# Altium footprint library Connector_PinHeader_1.00mm.PcbLib: 278 footprints (part 15 of 18)
Each footprint in its own frame and in the unit in brackets; x right, y up, seen from the top. Pads: shape width x height; smd on the part's side, far side on the other; paste and mask are expansions set on the pad; w line width, h text height; cw(c..) or ccw(c..) is an arc to the next point about the centre after c.
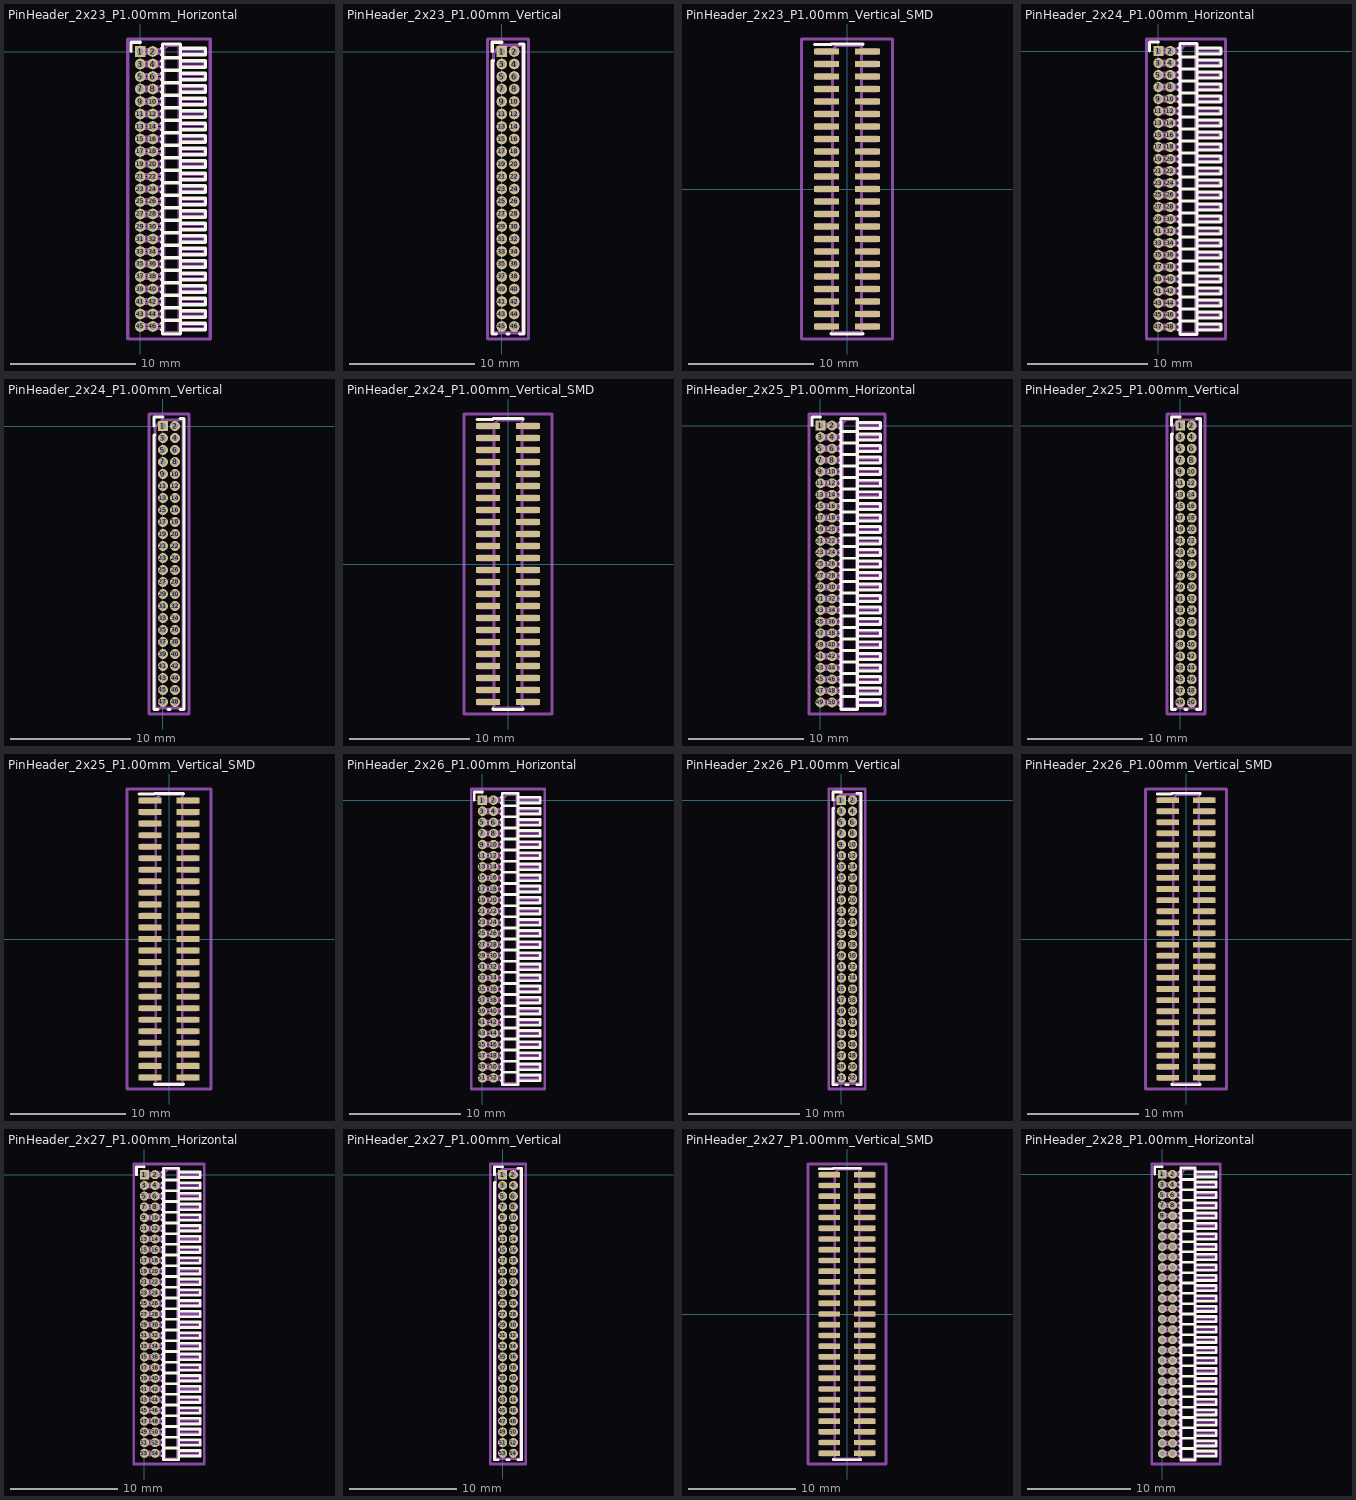
[diagram p14: the footprints below, top view; thin cyan lines are the x and y axes]

## PinHeader_2x23_P1.00mm_Horizontal [mm]
pads (46):
  rect 0.85x0.85 hole 0.5: 1(0,0)
  round 0.85 hole 0.5: 2(1,0) 3(0,-1) 4(1,-1) 5(0,-2) 6(1,-2) 7(0,-3) 8(1,-3) 9(0,-4) 10(1,-4) 11(0,-5) 12(1,-5) 13(0,-6) 14(1,-6) 15(0,-7) 16(1,-7) 17(0,-8) 18(1,-8) 19(0,-9) 20(1,-9) 21(0,-10) 22(1,-10) 23(0,-11) 24(1,-11) 25(0,-12) 26(1,-12) 27(0,-13) 28(1,-13) 29(0,-14) 30(1,-14) 31(0,-15) 32(1,-15) 33(0,-16) 34(1,-16) 35(0,-17) 36(1,-17) 37(0,-18) 38(1,-18) 39(0,-19) 40(1,-19) 41(0,-20) 42(1,-20) 43(0,-21) 44(1,-21) 45(0,-22) 46(1,-22)
F.SilkS:
  lines w0.254: -0.735,0 -0.735,0.735 0,0.735 ; 1.687,-22.26 1.79,-22.26 ; 1.687,-21.74 1.79,-21.74 ; 1.687,-21.26 1.79,-21.26 ; 1.687,-20.74 1.79,-20.74 ; 1.687,-20.26 1.79,-20.26 ; 1.687,-19.74 1.79,-19.74 ; 1.687,-19.26 1.79,-19.26 ; 1.687,-18.74 1.79,-18.74 ; 1.687,-18.26 1.79,-18.26 ; 1.687,-17.74 1.79,-17.74 ; 1.687,-17.26 1.79,-17.26 ; 1.687,-16.74 1.79,-16.74 ; 1.687,-16.26 1.79,-16.26 ; 1.687,-15.74 1.79,-15.74 ; 1.687,-15.26 1.79,-15.26 ; 1.687,-14.74 1.79,-14.74 ; 1.687,-14.26 1.79,-14.26 ; 1.687,-13.74 1.79,-13.74 ; 1.687,-13.26 1.79,-13.26 ; 1.687,-12.74 1.79,-12.74 ; 1.687,-12.26 1.79,-12.26 ; 1.687,-11.74 1.79,-11.74 ; 1.687,-11.26 1.79,-11.26 ; 1.687,-10.74 1.79,-10.74 ; 1.687,-10.26 1.79,-10.26 ; 1.687,-9.74 1.79,-9.74 ; 1.687,-9.26 1.79,-9.26 ; 1.687,-8.74 1.79,-8.74 ; 1.687,-8.26 1.79,-8.26 ; 1.687,-7.74 1.79,-7.74 ; 1.687,-7.26 1.79,-7.26 ; 1.687,-6.74 1.79,-6.74 ; 1.687,-6.26 1.79,-6.26 ; 1.687,-5.74 1.79,-5.74 ; 1.687,-5.26 1.79,-5.26 ; 1.687,-4.74 1.79,-4.74 ; 1.687,-4.26 1.79,-4.26 ; 1.687,-3.74 1.79,-3.74 ; 1.687,-3.26 1.79,-3.26 ; 1.687,-2.74 1.79,-2.74 ; 1.687,-2.26 1.79,-2.26 ; 1.687,-1.74 1.79,-1.74 ; 1.687,-1.26 1.79,-1.26 ; 1.687,-0.74 1.79,-0.74 ; 1.687,-0.26 1.79,-0.26 ; 1.687,0.26 1.79,0.26 ; 1.79,-21.5 3.21,-21.5 ; 1.79,-20.5 3.21,-20.5 ; 1.79,-19.5 3.21,-19.5 ; 1.79,-18.5 3.21,-18.5 ; 1.79,-17.5 3.21,-17.5 ; 1.79,-16.5 3.21,-16.5 ; 1.79,-15.5 3.21,-15.5 ; 1.79,-14.5 3.21,-14.5 ; 1.79,-13.5 3.21,-13.5 ; 1.79,-12.5 3.21,-12.5 ; 1.79,-11.5 3.21,-11.5 ; 1.79,-10.5 3.21,-10.5 ; 1.79,-9.5 3.21,-9.5 ; 1.79,-8.5 3.21,-8.5 ; 1.79,-7.5 3.21,-7.5 ; 1.79,-6.5 3.21,-6.5 ; 1.79,-5.5 3.21,-5.5 ; 1.79,-4.5 3.21,-4.5 ; 1.79,-3.5 3.21,-3.5 ; 1.79,-2.5 3.21,-2.5 ; 1.79,-1.5 3.21,-1.5 ; 1.79,-0.5 3.21,-0.5 ; 3.21,-22.26 5.21,-22.26 5.21,-21.74 3.21,-21.74 ; 3.21,-21.26 5.21,-21.26 5.21,-20.74 3.21,-20.74 ; 3.21,-20.26 5.21,-20.26 5.21,-19.74 3.21,-19.74 ; 3.21,-19.26 5.21,-19.26 5.21,-18.74 3.21,-18.74 ; 3.21,-18.26 5.21,-18.26 5.21,-17.74 3.21,-17.74 ; 3.21,-17.26 5.21,-17.26 5.21,-16.74 3.21,-16.74 ; 3.21,-16.26 5.21,-16.26 5.21,-15.74 3.21,-15.74 ; 3.21,-15.26 5.21,-15.26 5.21,-14.74 3.21,-14.74 ; 3.21,-14.26 5.21,-14.26 5.21,-13.74 3.21,-13.74 ; 3.21,-13.26 5.21,-13.26 5.21,-12.74 3.21,-12.74 ; 3.21,-12.26 5.21,-12.26 5.21,-11.74 3.21,-11.74 ; 3.21,-11.26 5.21,-11.26 5.21,-10.74 3.21,-10.74 ; 3.21,-10.26 5.21,-10.26 5.21,-9.74 3.21,-9.74 ; 3.21,-9.26 5.21,-9.26 5.21,-8.74 3.21,-8.74 ; 3.21,-8.26 5.21,-8.26 5.21,-7.74 3.21,-7.74 ; 3.21,-7.26 5.21,-7.26 5.21,-6.74 3.21,-6.74 ; 3.21,-6.26 5.21,-6.26 5.21,-5.74 3.21,-5.74 ; 3.21,-5.26 5.21,-5.26 5.21,-4.74 3.21,-4.74 ; 3.21,-4.26 5.21,-4.26 5.21,-3.74 3.21,-3.74 ; 3.21,-3.26 5.21,-3.26 5.21,-2.74 3.21,-2.74 ; 3.21,-2.26 5.21,-2.26 5.21,-1.74 3.21,-1.74 ; 3.21,-1.26 5.21,-1.26 5.21,-0.74 3.21,-0.74 ; 1.79,-22.61 3.21,-22.61 3.21,0.61 1.79,0.61 1.79,-22.61 ; 3.21,-0.26 5.21,-0.26 5.21,0.26 3.21,0.26 3.21,-0.26
Top Assembly:
  lines w0.254: 1.9,-22.15 -0.15,-22.15 -0.15,-21.85 1.9,-21.85 ; 1.9,-21.15 -0.15,-21.15 -0.15,-20.85 1.9,-20.85 ; 1.9,-20.15 -0.15,-20.15 -0.15,-19.85 1.9,-19.85 ; 1.9,-19.15 -0.15,-19.15 -0.15,-18.85 1.9,-18.85 ; 1.9,-18.15 -0.15,-18.15 -0.15,-17.85 1.9,-17.85 ; 1.9,-17.15 -0.15,-17.15 -0.15,-16.85 1.9,-16.85 ; 1.9,-16.15 -0.15,-16.15 -0.15,-15.85 1.9,-15.85 ; 1.9,-15.15 -0.15,-15.15 -0.15,-14.85 1.9,-14.85 ; 1.9,-14.15 -0.15,-14.15 -0.15,-13.85 1.9,-13.85 ; 1.9,-13.15 -0.15,-13.15 -0.15,-12.85 1.9,-12.85 ; 1.9,-12.15 -0.15,-12.15 -0.15,-11.85 1.9,-11.85 ; 1.9,-11.15 -0.15,-11.15 -0.15,-10.85 1.9,-10.85 ; 1.9,-10.15 -0.15,-10.15 -0.15,-9.85 1.9,-9.85 ; 1.9,-9.15 -0.15,-9.15 -0.15,-8.85 1.9,-8.85 ; 1.9,-8.15 -0.15,-8.15 -0.15,-7.85 1.9,-7.85 ; 1.9,-7.15 -0.15,-7.15 -0.15,-6.85 1.9,-6.85 ; 1.9,-6.15 -0.15,-6.15 -0.15,-5.85 1.9,-5.85 ; 1.9,-5.15 -0.15,-5.15 -0.15,-4.85 1.9,-4.85 ; 1.9,-4.15 -0.15,-4.15 -0.15,-3.85 1.9,-3.85 ; 1.9,-3.15 -0.15,-3.15 -0.15,-2.85 1.9,-2.85 ; 1.9,-2.15 -0.15,-2.15 -0.15,-1.85 1.9,-1.85 ; 1.9,-1.15 -0.15,-1.15 -0.15,-0.85 1.9,-0.85 ; 1.9,-0.15 -0.15,-0.15 -0.15,0.15 1.9,0.15 ; 3.1,-22.15 5.1,-22.15 5.1,-21.85 3.1,-21.85 ; 3.1,-21.15 5.1,-21.15 5.1,-20.85 3.1,-20.85 ; 3.1,-20.15 5.1,-20.15 5.1,-19.85 3.1,-19.85 ; 3.1,-19.15 5.1,-19.15 5.1,-18.85 3.1,-18.85 ; 3.1,-18.15 5.1,-18.15 5.1,-17.85 3.1,-17.85 ; 3.1,-17.15 5.1,-17.15 5.1,-16.85 3.1,-16.85 ; 3.1,-16.15 5.1,-16.15 5.1,-15.85 3.1,-15.85 ; 3.1,-15.15 5.1,-15.15 5.1,-14.85 3.1,-14.85 ; 3.1,-14.15 5.1,-14.15 5.1,-13.85 3.1,-13.85 ; 3.1,-13.15 5.1,-13.15 5.1,-12.85 3.1,-12.85 ; 3.1,-12.15 5.1,-12.15 5.1,-11.85 3.1,-11.85 ; 3.1,-11.15 5.1,-11.15 5.1,-10.85 3.1,-10.85 ; 3.1,-10.15 5.1,-10.15 5.1,-9.85 3.1,-9.85 ; 3.1,-9.15 5.1,-9.15 5.1,-8.85 3.1,-8.85 ; 3.1,-8.15 5.1,-8.15 5.1,-7.85 3.1,-7.85 ; 3.1,-7.15 5.1,-7.15 5.1,-6.85 3.1,-6.85 ; 3.1,-6.15 5.1,-6.15 5.1,-5.85 3.1,-5.85 ; 3.1,-5.15 5.1,-5.15 5.1,-4.85 3.1,-4.85 ; 3.1,-4.15 5.1,-4.15 5.1,-3.85 3.1,-3.85 ; 3.1,-3.15 5.1,-3.15 5.1,-2.85 3.1,-2.85 ; 3.1,-2.15 5.1,-2.15 5.1,-1.85 3.1,-1.85 ; 3.1,-1.15 5.1,-1.15 5.1,-0.85 3.1,-0.85 ; 3.1,-0.15 5.1,-0.15 5.1,0.15 3.1,0.15 ; 1.9,-22.5 3.1,-22.5 3.1,0.5 2.2,0.5 1.9,0.2 1.9,-22.5
  text "'.Designator'" at 3.105,-13.914 h0.72
Top Courtyard:
  lines w0.254: -1,-23 5.6,-23 5.6,1 -1,1 -1,-23
Top Designator:
  text ".Designator" at -5.318,-11.508 h1.52

## PinHeader_2x23_P1.00mm_Vertical [mm]
pads (46):
  rect 0.85x0.85 hole 0.5: 1(0,0)
  round 0.85 hole 0.5: 2(1,0) 3(0,-1) 4(1,-1) 5(0,-2) 6(1,-2) 7(0,-3) 8(1,-3) 9(0,-4) 10(1,-4) 11(0,-5) 12(1,-5) 13(0,-6) 14(1,-6) 15(0,-7) 16(1,-7) 17(0,-8) 18(1,-8) 19(0,-9) 20(1,-9) 21(0,-10) 22(1,-10) 23(0,-11) 24(1,-11) 25(0,-12) 26(1,-12) 27(0,-13) 28(1,-13) 29(0,-14) 30(1,-14) 31(0,-15) 32(1,-15) 33(0,-16) 34(1,-16) 35(0,-17) 36(1,-17) 37(0,-18) 38(1,-18) 39(0,-19) 40(1,-19) 41(0,-20) 42(1,-20) 43(0,-21) 44(1,-21) 45(0,-22) 46(1,-22)
F.SilkS:
  lines w0.254: -0.76,0 -0.76,0.735 0,0.735 ; -0.686,-0.735 -0.76,-0.735 -0.76,-22.61 -0.41,-22.61 ; 0.41,-22.61 0.59,-22.61 ; 1.41,-22.61 1.76,-22.61 1.76,0.61 1.41,0.61
Top Assembly:
  lines w0.254: -0.65,-22.5 1.65,-22.5 1.65,0.5 -0.075,0.5 -0.65,-0.075 -0.65,-22.5
  text "'.Designator'" at 1.34,-15.047 h1
Top Courtyard:
  lines w0.254: -1.15,-23 2.15,-23 2.15,1 -1.15,1 -1.15,-23
Top Designator:
  text ".Designator" at -7.118,-11.508 h1.52

## PinHeader_2x23_P1.00mm_Vertical_SMD [mm]
pads (46):
  rect 2x0.5 smd: 1(-1.65,11) 2(1.65,11) 3(-1.65,10) 4(1.65,10) 5(-1.65,9) 6(1.65,9) 7(-1.65,8) 8(1.65,8) 9(-1.65,7) 10(1.65,7) 11(-1.65,6) 12(1.65,6) 13(-1.65,5) 14(1.65,5) 15(-1.65,4) 16(1.65,4) 17(-1.65,3) 18(1.65,3) 19(-1.65,2) 20(1.65,2) 21(-1.65,1) 22(1.65,1) 23(-1.65,0) 24(1.65,0) 25(-1.65,-1) 26(1.65,-1) 27(-1.65,-2) 28(1.65,-2) 29(-1.65,-3) 30(1.65,-3) 31(-1.65,-4) 32(1.65,-4) 33(-1.65,-5) 34(1.65,-5) 35(-1.65,-6) 36(1.65,-6) 37(-1.65,-7) 38(1.65,-7) 39(-1.65,-8) 40(1.65,-8) 41(-1.65,-9) 42(1.65,-9) 43(-1.65,-10) 44(1.65,-10) 45(-1.65,-11) 46(1.65,-11)
F.SilkS:
  lines w0.254: -2.59,11.56 -1.26,11.56 -1.26,11.61 1.26,11.61 1.26,11.56 ; -1.26,-11.56 -1.26,-11.61 1.26,-11.61 1.26,-11.56
Top Assembly:
  lines w0.254: -1.15,-11.15 -2.4,-11.15 -2.4,-10.85 -1.15,-10.85 ; -1.15,-10.15 -2.4,-10.15 -2.4,-9.85 -1.15,-9.85 ; -1.15,-9.15 -2.4,-9.15 -2.4,-8.85 -1.15,-8.85 ; -1.15,-8.15 -2.4,-8.15 -2.4,-7.85 -1.15,-7.85 ; -1.15,-7.15 -2.4,-7.15 -2.4,-6.85 -1.15,-6.85 ; -1.15,-6.15 -2.4,-6.15 -2.4,-5.85 -1.15,-5.85 ; -1.15,-5.15 -2.4,-5.15 -2.4,-4.85 -1.15,-4.85 ; -1.15,-4.15 -2.4,-4.15 -2.4,-3.85 -1.15,-3.85 ; -1.15,-3.15 -2.4,-3.15 -2.4,-2.85 -1.15,-2.85 ; -1.15,-2.15 -2.4,-2.15 -2.4,-1.85 -1.15,-1.85 ; -1.15,-1.15 -2.4,-1.15 -2.4,-0.85 -1.15,-0.85 ; -1.15,-0.15 -2.4,-0.15 -2.4,0.15 -1.15,0.15 ; -1.15,0.85 -2.4,0.85 -2.4,1.15 -1.15,1.15 ; -1.15,1.85 -2.4,1.85 -2.4,2.15 -1.15,2.15 ; -1.15,2.85 -2.4,2.85 -2.4,3.15 -1.15,3.15 ; -1.15,3.85 -2.4,3.85 -2.4,4.15 -1.15,4.15 ; -1.15,4.85 -2.4,4.85 -2.4,5.15 -1.15,5.15 ; -1.15,5.85 -2.4,5.85 -2.4,6.15 -1.15,6.15 ; -1.15,6.85 -2.4,6.85 -2.4,7.15 -1.15,7.15 ; -1.15,7.85 -2.4,7.85 -2.4,8.15 -1.15,8.15 ; -1.15,8.85 -2.4,8.85 -2.4,9.15 -1.15,9.15 ; -1.15,9.85 -2.4,9.85 -2.4,10.15 -1.15,10.15 ; -1.15,10.85 -2.4,10.85 -2.4,11.15 -1.15,11.15 ; 1.15,-11.15 2.4,-11.15 2.4,-10.85 1.15,-10.85 ; 1.15,-10.15 2.4,-10.15 2.4,-9.85 1.15,-9.85 ; 1.15,-9.15 2.4,-9.15 2.4,-8.85 1.15,-8.85 ; 1.15,-8.15 2.4,-8.15 2.4,-7.85 1.15,-7.85 ; 1.15,-7.15 2.4,-7.15 2.4,-6.85 1.15,-6.85 ; 1.15,-6.15 2.4,-6.15 2.4,-5.85 1.15,-5.85 ; 1.15,-5.15 2.4,-5.15 2.4,-4.85 1.15,-4.85 ; 1.15,-4.15 2.4,-4.15 2.4,-3.85 1.15,-3.85 ; 1.15,-3.15 2.4,-3.15 2.4,-2.85 1.15,-2.85 ; 1.15,-2.15 2.4,-2.15 2.4,-1.85 1.15,-1.85 ; 1.15,-1.15 2.4,-1.15 2.4,-0.85 1.15,-0.85 ; 1.15,-0.15 2.4,-0.15 2.4,0.15 1.15,0.15 ; 1.15,0.85 2.4,0.85 2.4,1.15 1.15,1.15 ; 1.15,1.85 2.4,1.85 2.4,2.15 1.15,2.15 ; 1.15,2.85 2.4,2.85 2.4,3.15 1.15,3.15 ; 1.15,3.85 2.4,3.85 2.4,4.15 1.15,4.15 ; 1.15,4.85 2.4,4.85 2.4,5.15 1.15,5.15 ; 1.15,5.85 2.4,5.85 2.4,6.15 1.15,6.15 ; 1.15,6.85 2.4,6.85 2.4,7.15 1.15,7.15 ; 1.15,7.85 2.4,7.85 2.4,8.15 1.15,8.15 ; 1.15,8.85 2.4,8.85 2.4,9.15 1.15,9.15 ; 1.15,9.85 2.4,9.85 2.4,10.15 1.15,10.15 ; 1.15,10.85 2.4,10.85 2.4,11.15 1.15,11.15 ; -1.15,11.15 -1.15,-11.5 1.15,-11.5 1.15,11.5 -0.8,11.5 -1.15,11.15
  text "'.Designator'" at 0.84,-4.047 h1
Top Courtyard:
  lines w0.254: -3.65,-12 3.65,-12 3.65,12 -3.65,12 -3.65,-12
Top Designator:
  text ".Designator" at -7.618,-0.508 h1.52

## PinHeader_2x24_P1.00mm_Horizontal [mm]
pads (48):
  rect 0.85x0.85 hole 0.5: 1(0,0)
  round 0.85 hole 0.5: 2(1,0) 3(0,-1) 4(1,-1) 5(0,-2) 6(1,-2) 7(0,-3) 8(1,-3) 9(0,-4) 10(1,-4) 11(0,-5) 12(1,-5) 13(0,-6) 14(1,-6) 15(0,-7) 16(1,-7) 17(0,-8) 18(1,-8) 19(0,-9) 20(1,-9) 21(0,-10) 22(1,-10) 23(0,-11) 24(1,-11) 25(0,-12) 26(1,-12) 27(0,-13) 28(1,-13) 29(0,-14) 30(1,-14) 31(0,-15) 32(1,-15) 33(0,-16) 34(1,-16) 35(0,-17) 36(1,-17) 37(0,-18) 38(1,-18) 39(0,-19) 40(1,-19) 41(0,-20) 42(1,-20) 43(0,-21) 44(1,-21) 45(0,-22) 46(1,-22) 47(0,-23) 48(1,-23)
F.SilkS:
  lines w0.254: -0.735,0 -0.735,0.735 0,0.735 ; 1.687,-23.26 1.79,-23.26 ; 1.687,-22.74 1.79,-22.74 ; 1.687,-22.26 1.79,-22.26 ; 1.687,-21.74 1.79,-21.74 ; 1.687,-21.26 1.79,-21.26 ; 1.687,-20.74 1.79,-20.74 ; 1.687,-20.26 1.79,-20.26 ; 1.687,-19.74 1.79,-19.74 ; 1.687,-19.26 1.79,-19.26 ; 1.687,-18.74 1.79,-18.74 ; 1.687,-18.26 1.79,-18.26 ; 1.687,-17.74 1.79,-17.74 ; 1.687,-17.26 1.79,-17.26 ; 1.687,-16.74 1.79,-16.74 ; 1.687,-16.26 1.79,-16.26 ; 1.687,-15.74 1.79,-15.74 ; 1.687,-15.26 1.79,-15.26 ; 1.687,-14.74 1.79,-14.74 ; 1.687,-14.26 1.79,-14.26 ; 1.687,-13.74 1.79,-13.74 ; 1.687,-13.26 1.79,-13.26 ; 1.687,-12.74 1.79,-12.74 ; 1.687,-12.26 1.79,-12.26 ; 1.687,-11.74 1.79,-11.74 ; 1.687,-11.26 1.79,-11.26 ; 1.687,-10.74 1.79,-10.74 ; 1.687,-10.26 1.79,-10.26 ; 1.687,-9.74 1.79,-9.74 ; 1.687,-9.26 1.79,-9.26 ; 1.687,-8.74 1.79,-8.74 ; 1.687,-8.26 1.79,-8.26 ; 1.687,-7.74 1.79,-7.74 ; 1.687,-7.26 1.79,-7.26 ; 1.687,-6.74 1.79,-6.74 ; 1.687,-6.26 1.79,-6.26 ; 1.687,-5.74 1.79,-5.74 ; 1.687,-5.26 1.79,-5.26 ; 1.687,-4.74 1.79,-4.74 ; 1.687,-4.26 1.79,-4.26 ; 1.687,-3.74 1.79,-3.74 ; 1.687,-3.26 1.79,-3.26 ; 1.687,-2.74 1.79,-2.74 ; 1.687,-2.26 1.79,-2.26 ; 1.687,-1.74 1.79,-1.74 ; 1.687,-1.26 1.79,-1.26 ; 1.687,-0.74 1.79,-0.74 ; 1.687,-0.26 1.79,-0.26 ; 1.687,0.26 1.79,0.26 ; 1.79,-22.5 3.21,-22.5 ; 1.79,-21.5 3.21,-21.5 ; 1.79,-20.5 3.21,-20.5 ; 1.79,-19.5 3.21,-19.5 ; 1.79,-18.5 3.21,-18.5 ; 1.79,-17.5 3.21,-17.5 ; 1.79,-16.5 3.21,-16.5 ; 1.79,-15.5 3.21,-15.5 ; 1.79,-14.5 3.21,-14.5 ; 1.79,-13.5 3.21,-13.5 ; 1.79,-12.5 3.21,-12.5 ; 1.79,-11.5 3.21,-11.5 ; 1.79,-10.5 3.21,-10.5 ; 1.79,-9.5 3.21,-9.5 ; 1.79,-8.5 3.21,-8.5 ; 1.79,-7.5 3.21,-7.5 ; 1.79,-6.5 3.21,-6.5 ; 1.79,-5.5 3.21,-5.5 ; 1.79,-4.5 3.21,-4.5 ; 1.79,-3.5 3.21,-3.5 ; 1.79,-2.5 3.21,-2.5 ; 1.79,-1.5 3.21,-1.5 ; 1.79,-0.5 3.21,-0.5 ; 3.21,-23.26 5.21,-23.26 5.21,-22.74 3.21,-22.74 ; 3.21,-22.26 5.21,-22.26 5.21,-21.74 3.21,-21.74 ; 3.21,-21.26 5.21,-21.26 5.21,-20.74 3.21,-20.74 ; 3.21,-20.26 5.21,-20.26 5.21,-19.74 3.21,-19.74 ; 3.21,-19.26 5.21,-19.26 5.21,-18.74 3.21,-18.74 ; 3.21,-18.26 5.21,-18.26 5.21,-17.74 3.21,-17.74 ; 3.21,-17.26 5.21,-17.26 5.21,-16.74 3.21,-16.74 ; 3.21,-16.26 5.21,-16.26 5.21,-15.74 3.21,-15.74 ; 3.21,-15.26 5.21,-15.26 5.21,-14.74 3.21,-14.74 ; 3.21,-14.26 5.21,-14.26 5.21,-13.74 3.21,-13.74 ; 3.21,-13.26 5.21,-13.26 5.21,-12.74 3.21,-12.74 ; 3.21,-12.26 5.21,-12.26 5.21,-11.74 3.21,-11.74 ; 3.21,-11.26 5.21,-11.26 5.21,-10.74 3.21,-10.74 ; 3.21,-10.26 5.21,-10.26 5.21,-9.74 3.21,-9.74 ; 3.21,-9.26 5.21,-9.26 5.21,-8.74 3.21,-8.74 ; 3.21,-8.26 5.21,-8.26 5.21,-7.74 3.21,-7.74 ; 3.21,-7.26 5.21,-7.26 5.21,-6.74 3.21,-6.74 ; 3.21,-6.26 5.21,-6.26 5.21,-5.74 3.21,-5.74 ; 3.21,-5.26 5.21,-5.26 5.21,-4.74 3.21,-4.74 ; 3.21,-4.26 5.21,-4.26 5.21,-3.74 3.21,-3.74 ; 3.21,-3.26 5.21,-3.26 5.21,-2.74 3.21,-2.74 ; 3.21,-2.26 5.21,-2.26 5.21,-1.74 3.21,-1.74 ; 3.21,-1.26 5.21,-1.26 5.21,-0.74 3.21,-0.74 ; 1.79,-23.61 3.21,-23.61 3.21,0.61 1.79,0.61 1.79,-23.61 ; 3.21,-0.26 5.21,-0.26 5.21,0.26 3.21,0.26 3.21,-0.26
Top Assembly:
  lines w0.254: 1.9,-23.15 -0.15,-23.15 -0.15,-22.85 1.9,-22.85 ; 1.9,-22.15 -0.15,-22.15 -0.15,-21.85 1.9,-21.85 ; 1.9,-21.15 -0.15,-21.15 -0.15,-20.85 1.9,-20.85 ; 1.9,-20.15 -0.15,-20.15 -0.15,-19.85 1.9,-19.85 ; 1.9,-19.15 -0.15,-19.15 -0.15,-18.85 1.9,-18.85 ; 1.9,-18.15 -0.15,-18.15 -0.15,-17.85 1.9,-17.85 ; 1.9,-17.15 -0.15,-17.15 -0.15,-16.85 1.9,-16.85 ; 1.9,-16.15 -0.15,-16.15 -0.15,-15.85 1.9,-15.85 ; 1.9,-15.15 -0.15,-15.15 -0.15,-14.85 1.9,-14.85 ; 1.9,-14.15 -0.15,-14.15 -0.15,-13.85 1.9,-13.85 ; 1.9,-13.15 -0.15,-13.15 -0.15,-12.85 1.9,-12.85 ; 1.9,-12.15 -0.15,-12.15 -0.15,-11.85 1.9,-11.85 ; 1.9,-11.15 -0.15,-11.15 -0.15,-10.85 1.9,-10.85 ; 1.9,-10.15 -0.15,-10.15 -0.15,-9.85 1.9,-9.85 ; 1.9,-9.15 -0.15,-9.15 -0.15,-8.85 1.9,-8.85 ; 1.9,-8.15 -0.15,-8.15 -0.15,-7.85 1.9,-7.85 ; 1.9,-7.15 -0.15,-7.15 -0.15,-6.85 1.9,-6.85 ; 1.9,-6.15 -0.15,-6.15 -0.15,-5.85 1.9,-5.85 ; 1.9,-5.15 -0.15,-5.15 -0.15,-4.85 1.9,-4.85 ; 1.9,-4.15 -0.15,-4.15 -0.15,-3.85 1.9,-3.85 ; 1.9,-3.15 -0.15,-3.15 -0.15,-2.85 1.9,-2.85 ; 1.9,-2.15 -0.15,-2.15 -0.15,-1.85 1.9,-1.85 ; 1.9,-1.15 -0.15,-1.15 -0.15,-0.85 1.9,-0.85 ; 1.9,-0.15 -0.15,-0.15 -0.15,0.15 1.9,0.15 ; 3.1,-23.15 5.1,-23.15 5.1,-22.85 3.1,-22.85 ; 3.1,-22.15 5.1,-22.15 5.1,-21.85 3.1,-21.85 ; 3.1,-21.15 5.1,-21.15 5.1,-20.85 3.1,-20.85 ; 3.1,-20.15 5.1,-20.15 5.1,-19.85 3.1,-19.85 ; 3.1,-19.15 5.1,-19.15 5.1,-18.85 3.1,-18.85 ; 3.1,-18.15 5.1,-18.15 5.1,-17.85 3.1,-17.85 ; 3.1,-17.15 5.1,-17.15 5.1,-16.85 3.1,-16.85 ; 3.1,-16.15 5.1,-16.15 5.1,-15.85 3.1,-15.85 ; 3.1,-15.15 5.1,-15.15 5.1,-14.85 3.1,-14.85 ; 3.1,-14.15 5.1,-14.15 5.1,-13.85 3.1,-13.85 ; 3.1,-13.15 5.1,-13.15 5.1,-12.85 3.1,-12.85 ; 3.1,-12.15 5.1,-12.15 5.1,-11.85 3.1,-11.85 ; 3.1,-11.15 5.1,-11.15 5.1,-10.85 3.1,-10.85 ; 3.1,-10.15 5.1,-10.15 5.1,-9.85 3.1,-9.85 ; 3.1,-9.15 5.1,-9.15 5.1,-8.85 3.1,-8.85 ; 3.1,-8.15 5.1,-8.15 5.1,-7.85 3.1,-7.85 ; 3.1,-7.15 5.1,-7.15 5.1,-6.85 3.1,-6.85 ; 3.1,-6.15 5.1,-6.15 5.1,-5.85 3.1,-5.85 ; 3.1,-5.15 5.1,-5.15 5.1,-4.85 3.1,-4.85 ; 3.1,-4.15 5.1,-4.15 5.1,-3.85 3.1,-3.85 ; 3.1,-3.15 5.1,-3.15 5.1,-2.85 3.1,-2.85 ; 3.1,-2.15 5.1,-2.15 5.1,-1.85 3.1,-1.85 ; 3.1,-1.15 5.1,-1.15 5.1,-0.85 3.1,-0.85 ; 3.1,-0.15 5.1,-0.15 5.1,0.15 3.1,0.15 ; 1.9,-23.5 3.1,-23.5 3.1,0.5 2.2,0.5 1.9,0.2 1.9,-23.5
  text "'.Designator'" at 3.105,-14.414 h0.72
Top Courtyard:
  lines w0.254: -1,-24 5.6,-24 5.6,1 -1,1 -1,-24
Top Designator:
  text ".Designator" at -5.318,-12.008 h1.52

## PinHeader_2x24_P1.00mm_Vertical [mm]
pads (48):
  rect 0.85x0.85 hole 0.5: 1(0,0)
  round 0.85 hole 0.5: 2(1,0) 3(0,-1) 4(1,-1) 5(0,-2) 6(1,-2) 7(0,-3) 8(1,-3) 9(0,-4) 10(1,-4) 11(0,-5) 12(1,-5) 13(0,-6) 14(1,-6) 15(0,-7) 16(1,-7) 17(0,-8) 18(1,-8) 19(0,-9) 20(1,-9) 21(0,-10) 22(1,-10) 23(0,-11) 24(1,-11) 25(0,-12) 26(1,-12) 27(0,-13) 28(1,-13) 29(0,-14) 30(1,-14) 31(0,-15) 32(1,-15) 33(0,-16) 34(1,-16) 35(0,-17) 36(1,-17) 37(0,-18) 38(1,-18) 39(0,-19) 40(1,-19) 41(0,-20) 42(1,-20) 43(0,-21) 44(1,-21) 45(0,-22) 46(1,-22) 47(0,-23) 48(1,-23)
F.SilkS:
  lines w0.254: -0.76,0 -0.76,0.735 0,0.735 ; -0.686,-0.735 -0.76,-0.735 -0.76,-23.61 -0.41,-23.61 ; 0.41,-23.61 0.59,-23.61 ; 1.41,-23.61 1.76,-23.61 1.76,0.61 1.41,0.61
Top Assembly:
  lines w0.254: -0.65,-23.5 1.65,-23.5 1.65,0.5 -0.075,0.5 -0.65,-0.075 -0.65,-23.5
  text "'.Designator'" at 1.34,-15.547 h1
Top Courtyard:
  lines w0.254: -1.15,-24 2.15,-24 2.15,1 -1.15,1 -1.15,-24
Top Designator:
  text ".Designator" at -7.118,-12.008 h1.52

## PinHeader_2x24_P1.00mm_Vertical_SMD [mm]
pads (48):
  rect 2x0.5 smd: 1(-1.65,11.5) 2(1.65,11.5) 3(-1.65,10.5) 4(1.65,10.5) 5(-1.65,9.5) 6(1.65,9.5) 7(-1.65,8.5) 8(1.65,8.5) 9(-1.65,7.5) 10(1.65,7.5) 11(-1.65,6.5) 12(1.65,6.5) 13(-1.65,5.5) 14(1.65,5.5) 15(-1.65,4.5) 16(1.65,4.5) 17(-1.65,3.5) 18(1.65,3.5) 19(-1.65,2.5) 20(1.65,2.5) 21(-1.65,1.5) 22(1.65,1.5) 23(-1.65,0.5) 24(1.65,0.5) 25(-1.65,-0.5) 26(1.65,-0.5) 27(-1.65,-1.5) 28(1.65,-1.5) 29(-1.65,-2.5) 30(1.65,-2.5) 31(-1.65,-3.5) 32(1.65,-3.5) 33(-1.65,-4.5) 34(1.65,-4.5) 35(-1.65,-5.5) 36(1.65,-5.5) 37(-1.65,-6.5) 38(1.65,-6.5) 39(-1.65,-7.5) 40(1.65,-7.5) 41(-1.65,-8.5) 42(1.65,-8.5) 43(-1.65,-9.5) 44(1.65,-9.5) 45(-1.65,-10.5) 46(1.65,-10.5) 47(-1.65,-11.5) 48(1.65,-11.5)
F.SilkS:
  lines w0.254: -2.59,12.06 -1.26,12.06 -1.26,12.11 1.26,12.11 1.26,12.06 ; -1.26,-12.06 -1.26,-12.11 1.26,-12.11 1.26,-12.06
Top Assembly:
  lines w0.254: -1.15,-11.65 -2.4,-11.65 -2.4,-11.35 -1.15,-11.35 ; -1.15,-10.65 -2.4,-10.65 -2.4,-10.35 -1.15,-10.35 ; -1.15,-9.65 -2.4,-9.65 -2.4,-9.35 -1.15,-9.35 ; -1.15,-8.65 -2.4,-8.65 -2.4,-8.35 -1.15,-8.35 ; -1.15,-7.65 -2.4,-7.65 -2.4,-7.35 -1.15,-7.35 ; -1.15,-6.65 -2.4,-6.65 -2.4,-6.35 -1.15,-6.35 ; -1.15,-5.65 -2.4,-5.65 -2.4,-5.35 -1.15,-5.35 ; -1.15,-4.65 -2.4,-4.65 -2.4,-4.35 -1.15,-4.35 ; -1.15,-3.65 -2.4,-3.65 -2.4,-3.35 -1.15,-3.35 ; -1.15,-2.65 -2.4,-2.65 -2.4,-2.35 -1.15,-2.35 ; -1.15,-1.65 -2.4,-1.65 -2.4,-1.35 -1.15,-1.35 ; -1.15,-0.65 -2.4,-0.65 -2.4,-0.35 -1.15,-0.35 ; -1.15,0.35 -2.4,0.35 -2.4,0.65 -1.15,0.65 ; -1.15,1.35 -2.4,1.35 -2.4,1.65 -1.15,1.65 ; -1.15,2.35 -2.4,2.35 -2.4,2.65 -1.15,2.65 ; -1.15,3.35 -2.4,3.35 -2.4,3.65 -1.15,3.65 ; -1.15,4.35 -2.4,4.35 -2.4,4.65 -1.15,4.65 ; -1.15,5.35 -2.4,5.35 -2.4,5.65 -1.15,5.65 ; -1.15,6.35 -2.4,6.35 -2.4,6.65 -1.15,6.65 ; -1.15,7.35 -2.4,7.35 -2.4,7.65 -1.15,7.65 ; -1.15,8.35 -2.4,8.35 -2.4,8.65 -1.15,8.65 ; -1.15,9.35 -2.4,9.35 -2.4,9.65 -1.15,9.65 ; -1.15,10.35 -2.4,10.35 -2.4,10.65 -1.15,10.65 ; -1.15,11.35 -2.4,11.35 -2.4,11.65 -1.15,11.65 ; 1.15,-11.65 2.4,-11.65 2.4,-11.35 1.15,-11.35 ; 1.15,-10.65 2.4,-10.65 2.4,-10.35 1.15,-10.35 ; 1.15,-9.65 2.4,-9.65 2.4,-9.35 1.15,-9.35 ; 1.15,-8.65 2.4,-8.65 2.4,-8.35 1.15,-8.35 ; 1.15,-7.65 2.4,-7.65 2.4,-7.35 1.15,-7.35 ; 1.15,-6.65 2.4,-6.65 2.4,-6.35 1.15,-6.35 ; 1.15,-5.65 2.4,-5.65 2.4,-5.35 1.15,-5.35 ; 1.15,-4.65 2.4,-4.65 2.4,-4.35 1.15,-4.35 ; 1.15,-3.65 2.4,-3.65 2.4,-3.35 1.15,-3.35 ; 1.15,-2.65 2.4,-2.65 2.4,-2.35 1.15,-2.35 ; 1.15,-1.65 2.4,-1.65 2.4,-1.35 1.15,-1.35 ; 1.15,-0.65 2.4,-0.65 2.4,-0.35 1.15,-0.35 ; 1.15,0.35 2.4,0.35 2.4,0.65 1.15,0.65 ; 1.15,1.35 2.4,1.35 2.4,1.65 1.15,1.65 ; 1.15,2.35 2.4,2.35 2.4,2.65 1.15,2.65 ; 1.15,3.35 2.4,3.35 2.4,3.65 1.15,3.65 ; 1.15,4.35 2.4,4.35 2.4,4.65 1.15,4.65 ; 1.15,5.35 2.4,5.35 2.4,5.65 1.15,5.65 ; 1.15,6.35 2.4,6.35 2.4,6.65 1.15,6.65 ; 1.15,7.35 2.4,7.35 2.4,7.65 1.15,7.65 ; 1.15,8.35 2.4,8.35 2.4,8.65 1.15,8.65 ; 1.15,9.35 2.4,9.35 2.4,9.65 1.15,9.65 ; 1.15,10.35 2.4,10.35 2.4,10.65 1.15,10.65 ; 1.15,11.35 2.4,11.35 2.4,11.65 1.15,11.65 ; -1.15,11.65 -1.15,-12 1.15,-12 1.15,12 -0.8,12 -1.15,11.65
  text "'.Designator'" at 0.84,-4.047 h1
Top Courtyard:
  lines w0.254: -3.65,-12.5 3.65,-12.5 3.65,12.5 -3.65,12.5 -3.65,-12.5
Top Designator:
  text ".Designator" at -7.618,-0.508 h1.52

## PinHeader_2x25_P1.00mm_Horizontal [mm]
pads (50):
  rect 0.85x0.85 hole 0.5: 1(0,0)
  round 0.85 hole 0.5: 2(1,0) 3(0,-1) 4(1,-1) 5(0,-2) 6(1,-2) 7(0,-3) 8(1,-3) 9(0,-4) 10(1,-4) 11(0,-5) 12(1,-5) 13(0,-6) 14(1,-6) 15(0,-7) 16(1,-7) 17(0,-8) 18(1,-8) 19(0,-9) 20(1,-9) 21(0,-10) 22(1,-10) 23(0,-11) 24(1,-11) 25(0,-12) 26(1,-12) 27(0,-13) 28(1,-13) 29(0,-14) 30(1,-14) 31(0,-15) 32(1,-15) 33(0,-16) 34(1,-16) 35(0,-17) 36(1,-17) 37(0,-18) 38(1,-18) 39(0,-19) 40(1,-19) 41(0,-20) 42(1,-20) 43(0,-21) 44(1,-21) 45(0,-22) 46(1,-22) 47(0,-23) 48(1,-23) 49(0,-24) 50(1,-24)
F.SilkS:
  drawing of 156 lines, arcs and shapes, not listed
Top Assembly:
  drawing of 155 lines, arcs and shapes, not listed
  text "'.Designator'" at 3.105,-14.914 h0.72
Top Courtyard:
  lines w0.254: -1,-25 5.6,-25 5.6,1 -1,1 -1,-25
Top Designator:
  text ".Designator" at -5.318,-12.508 h1.52

## PinHeader_2x25_P1.00mm_Vertical [mm]
pads (50):
  rect 0.85x0.85 hole 0.5: 1(0,0)
  round 0.85 hole 0.5: 2(1,0) 3(0,-1) 4(1,-1) 5(0,-2) 6(1,-2) 7(0,-3) 8(1,-3) 9(0,-4) 10(1,-4) 11(0,-5) 12(1,-5) 13(0,-6) 14(1,-6) 15(0,-7) 16(1,-7) 17(0,-8) 18(1,-8) 19(0,-9) 20(1,-9) 21(0,-10) 22(1,-10) 23(0,-11) 24(1,-11) 25(0,-12) 26(1,-12) 27(0,-13) 28(1,-13) 29(0,-14) 30(1,-14) 31(0,-15) 32(1,-15) 33(0,-16) 34(1,-16) 35(0,-17) 36(1,-17) 37(0,-18) 38(1,-18) 39(0,-19) 40(1,-19) 41(0,-20) 42(1,-20) 43(0,-21) 44(1,-21) 45(0,-22) 46(1,-22) 47(0,-23) 48(1,-23) 49(0,-24) 50(1,-24)
F.SilkS:
  lines w0.254: -0.76,0 -0.76,0.735 0,0.735 ; -0.686,-0.735 -0.76,-0.735 -0.76,-24.61 -0.41,-24.61 ; 0.41,-24.61 0.59,-24.61 ; 1.41,-24.61 1.76,-24.61 1.76,0.61 1.41,0.61
Top Assembly:
  lines w0.254: -0.65,-24.5 1.65,-24.5 1.65,0.5 -0.075,0.5 -0.65,-0.075 -0.65,-24.5
  text "'.Designator'" at 1.34,-16.047 h1
Top Courtyard:
  lines w0.254: -1.15,-25 2.15,-25 2.15,1 -1.15,1 -1.15,-25
Top Designator:
  text ".Designator" at -7.118,-12.508 h1.52

## PinHeader_2x25_P1.00mm_Vertical_SMD [mm]
pads (50):
  rect 2x0.5 smd: 1(-1.65,12) 2(1.65,12) 3(-1.65,11) 4(1.65,11) 5(-1.65,10) 6(1.65,10) 7(-1.65,9) 8(1.65,9) 9(-1.65,8) 10(1.65,8) 11(-1.65,7) 12(1.65,7) 13(-1.65,6) 14(1.65,6) 15(-1.65,5) 16(1.65,5) 17(-1.65,4) 18(1.65,4) 19(-1.65,3) 20(1.65,3) 21(-1.65,2) 22(1.65,2) 23(-1.65,1) 24(1.65,1) 25(-1.65,0) 26(1.65,0) 27(-1.65,-1) 28(1.65,-1) 29(-1.65,-2) 30(1.65,-2) 31(-1.65,-3) 32(1.65,-3) 33(-1.65,-4) 34(1.65,-4) 35(-1.65,-5) 36(1.65,-5) 37(-1.65,-6) 38(1.65,-6) 39(-1.65,-7) 40(1.65,-7) 41(-1.65,-8) 42(1.65,-8) 43(-1.65,-9) 44(1.65,-9) 45(-1.65,-10) 46(1.65,-10) 47(-1.65,-11) 48(1.65,-11) 49(-1.65,-12) 50(1.65,-12)
F.SilkS:
  lines w0.254: -2.59,12.56 -1.26,12.56 -1.26,12.61 1.26,12.61 1.26,12.56 ; -1.26,-12.56 -1.26,-12.61 1.26,-12.61 1.26,-12.56
Top Assembly:
  drawing of 155 lines, arcs and shapes, not listed
  text "'.Designator'" at 0.84,-4.047 h1
Top Courtyard:
  lines w0.254: -3.65,-13 3.65,-13 3.65,13 -3.65,13 -3.65,-13
Top Designator:
  text ".Designator" at -7.618,-0.508 h1.52

## PinHeader_2x26_P1.00mm_Horizontal [mm]
pads (52):
  rect 0.85x0.85 hole 0.5: 1(0,0)
  round 0.85 hole 0.5: 2(1,0) 3(0,-1) 4(1,-1) 5(0,-2) 6(1,-2) 7(0,-3) 8(1,-3) 9(0,-4) 10(1,-4) 11(0,-5) 12(1,-5) 13(0,-6) 14(1,-6) 15(0,-7) 16(1,-7) 17(0,-8) 18(1,-8) 19(0,-9) 20(1,-9) 21(0,-10) 22(1,-10) 23(0,-11) 24(1,-11) 25(0,-12) 26(1,-12) 27(0,-13) 28(1,-13) 29(0,-14) 30(1,-14) 31(0,-15) 32(1,-15) 33(0,-16) 34(1,-16) 35(0,-17) 36(1,-17) 37(0,-18) 38(1,-18) 39(0,-19) 40(1,-19) 41(0,-20) 42(1,-20) 43(0,-21) 44(1,-21) 45(0,-22) 46(1,-22) 47(0,-23) 48(1,-23) 49(0,-24) 50(1,-24) 51(0,-25) 52(1,-25)
F.SilkS:
  drawing of 162 lines, arcs and shapes, not listed
Top Assembly:
  drawing of 161 lines, arcs and shapes, not listed
  text "'.Designator'" at 3.105,-15.414 h0.72
Top Courtyard:
  lines w0.254: -1,-26 5.6,-26 5.6,1 -1,1 -1,-26
Top Designator:
  text ".Designator" at -5.318,-13.008 h1.52

## PinHeader_2x26_P1.00mm_Vertical [mm]
pads (52):
  rect 0.85x0.85 hole 0.5: 1(0,0)
  round 0.85 hole 0.5: 2(1,0) 3(0,-1) 4(1,-1) 5(0,-2) 6(1,-2) 7(0,-3) 8(1,-3) 9(0,-4) 10(1,-4) 11(0,-5) 12(1,-5) 13(0,-6) 14(1,-6) 15(0,-7) 16(1,-7) 17(0,-8) 18(1,-8) 19(0,-9) 20(1,-9) 21(0,-10) 22(1,-10) 23(0,-11) 24(1,-11) 25(0,-12) 26(1,-12) 27(0,-13) 28(1,-13) 29(0,-14) 30(1,-14) 31(0,-15) 32(1,-15) 33(0,-16) 34(1,-16) 35(0,-17) 36(1,-17) 37(0,-18) 38(1,-18) 39(0,-19) 40(1,-19) 41(0,-20) 42(1,-20) 43(0,-21) 44(1,-21) 45(0,-22) 46(1,-22) 47(0,-23) 48(1,-23) 49(0,-24) 50(1,-24) 51(0,-25) 52(1,-25)
F.SilkS:
  lines w0.254: -0.76,0 -0.76,0.735 0,0.735 ; -0.686,-0.735 -0.76,-0.735 -0.76,-25.61 -0.41,-25.61 ; 0.41,-25.61 0.59,-25.61 ; 1.41,-25.61 1.76,-25.61 1.76,0.61 1.41,0.61
Top Assembly:
  lines w0.254: -0.65,-25.5 1.65,-25.5 1.65,0.5 -0.075,0.5 -0.65,-0.075 -0.65,-25.5
  text "'.Designator'" at 1.34,-16.547 h1
Top Courtyard:
  lines w0.254: -1.15,-26 2.15,-26 2.15,1 -1.15,1 -1.15,-26
Top Designator:
  text ".Designator" at -7.118,-13.008 h1.52

## PinHeader_2x26_P1.00mm_Vertical_SMD [mm]
pads (52):
  rect 2x0.5 smd: 1(-1.65,12.5) 2(1.65,12.5) 3(-1.65,11.5) 4(1.65,11.5) 5(-1.65,10.5) 6(1.65,10.5) 7(-1.65,9.5) 8(1.65,9.5) 9(-1.65,8.5) 10(1.65,8.5) 11(-1.65,7.5) 12(1.65,7.5) 13(-1.65,6.5) 14(1.65,6.5) 15(-1.65,5.5) 16(1.65,5.5) 17(-1.65,4.5) 18(1.65,4.5) 19(-1.65,3.5) 20(1.65,3.5) 21(-1.65,2.5) 22(1.65,2.5) 23(-1.65,1.5) 24(1.65,1.5) 25(-1.65,0.5) 26(1.65,0.5) 27(-1.65,-0.5) 28(1.65,-0.5) 29(-1.65,-1.5) 30(1.65,-1.5) 31(-1.65,-2.5) 32(1.65,-2.5) 33(-1.65,-3.5) 34(1.65,-3.5) 35(-1.65,-4.5) 36(1.65,-4.5) 37(-1.65,-5.5) 38(1.65,-5.5) 39(-1.65,-6.5) 40(1.65,-6.5) 41(-1.65,-7.5) 42(1.65,-7.5) 43(-1.65,-8.5) 44(1.65,-8.5) 45(-1.65,-9.5) 46(1.65,-9.5) 47(-1.65,-10.5) 48(1.65,-10.5) 49(-1.65,-11.5) 50(1.65,-11.5) 51(-1.65,-12.5) 52(1.65,-12.5)
F.SilkS:
  lines w0.254: -2.59,13.06 -1.26,13.06 -1.26,13.11 1.26,13.11 1.26,13.06 ; -1.26,-13.06 -1.26,-13.11 1.26,-13.11 1.26,-13.06
Top Assembly:
  drawing of 161 lines, arcs and shapes, not listed
  text "'.Designator'" at 0.84,-4.047 h1
Top Courtyard:
  lines w0.254: -3.65,-13.5 3.65,-13.5 3.65,13.5 -3.65,13.5 -3.65,-13.5
Top Designator:
  text ".Designator" at -7.618,-0.508 h1.52

## PinHeader_2x27_P1.00mm_Horizontal [mm]
pads (54):
  rect 0.85x0.85 hole 0.5: 1(0,0)
  round 0.85 hole 0.5: 2(1,0) 3(0,-1) 4(1,-1) 5(0,-2) 6(1,-2) 7(0,-3) 8(1,-3) 9(0,-4) 10(1,-4) 11(0,-5) 12(1,-5) 13(0,-6) 14(1,-6) 15(0,-7) 16(1,-7) 17(0,-8) 18(1,-8) 19(0,-9) 20(1,-9) 21(0,-10) 22(1,-10) 23(0,-11) 24(1,-11) 25(0,-12) 26(1,-12) 27(0,-13) 28(1,-13) 29(0,-14) 30(1,-14) 31(0,-15) 32(1,-15) 33(0,-16) 34(1,-16) 35(0,-17) 36(1,-17) 37(0,-18) 38(1,-18) 39(0,-19) 40(1,-19) 41(0,-20) 42(1,-20) 43(0,-21) 44(1,-21) 45(0,-22) 46(1,-22) 47(0,-23) 48(1,-23) 49(0,-24) 50(1,-24) 51(0,-25) 52(1,-25) 53(0,-26) 54(1,-26)
F.SilkS:
  drawing of 168 lines, arcs and shapes, not listed
Top Assembly:
  drawing of 167 lines, arcs and shapes, not listed
  text "'.Designator'" at 3.105,-15.914 h0.72
Top Courtyard:
  lines w0.254: -1,-27 5.6,-27 5.6,1 -1,1 -1,-27
Top Designator:
  text ".Designator" at -5.318,-13.508 h1.52

## PinHeader_2x27_P1.00mm_Vertical [mm]
pads (54):
  rect 0.85x0.85 hole 0.5: 1(0,0)
  round 0.85 hole 0.5: 2(1,0) 3(0,-1) 4(1,-1) 5(0,-2) 6(1,-2) 7(0,-3) 8(1,-3) 9(0,-4) 10(1,-4) 11(0,-5) 12(1,-5) 13(0,-6) 14(1,-6) 15(0,-7) 16(1,-7) 17(0,-8) 18(1,-8) 19(0,-9) 20(1,-9) 21(0,-10) 22(1,-10) 23(0,-11) 24(1,-11) 25(0,-12) 26(1,-12) 27(0,-13) 28(1,-13) 29(0,-14) 30(1,-14) 31(0,-15) 32(1,-15) 33(0,-16) 34(1,-16) 35(0,-17) 36(1,-17) 37(0,-18) 38(1,-18) 39(0,-19) 40(1,-19) 41(0,-20) 42(1,-20) 43(0,-21) 44(1,-21) 45(0,-22) 46(1,-22) 47(0,-23) 48(1,-23) 49(0,-24) 50(1,-24) 51(0,-25) 52(1,-25) 53(0,-26) 54(1,-26)
F.SilkS:
  lines w0.254: -0.76,0 -0.76,0.735 0,0.735 ; -0.686,-0.735 -0.76,-0.735 -0.76,-26.61 -0.41,-26.61 ; 0.41,-26.61 0.59,-26.61 ; 1.41,-26.61 1.76,-26.61 1.76,0.61 1.41,0.61
Top Assembly:
  lines w0.254: -0.65,-26.5 1.65,-26.5 1.65,0.5 -0.075,0.5 -0.65,-0.075 -0.65,-26.5
  text "'.Designator'" at 1.34,-17.047 h1
Top Courtyard:
  lines w0.254: -1.15,-27 2.15,-27 2.15,1 -1.15,1 -1.15,-27
Top Designator:
  text ".Designator" at -7.118,-13.508 h1.52

## PinHeader_2x27_P1.00mm_Vertical_SMD [mm]
pads (54):
  rect 2x0.5 smd: 1(-1.65,13) 2(1.65,13) 3(-1.65,12) 4(1.65,12) 5(-1.65,11) 6(1.65,11) 7(-1.65,10) 8(1.65,10) 9(-1.65,9) 10(1.65,9) 11(-1.65,8) 12(1.65,8) 13(-1.65,7) 14(1.65,7) 15(-1.65,6) 16(1.65,6) 17(-1.65,5) 18(1.65,5) 19(-1.65,4) 20(1.65,4) 21(-1.65,3) 22(1.65,3) 23(-1.65,2) 24(1.65,2) 25(-1.65,1) 26(1.65,1) 27(-1.65,0) 28(1.65,0) 29(-1.65,-1) 30(1.65,-1) 31(-1.65,-2) 32(1.65,-2) 33(-1.65,-3) 34(1.65,-3) 35(-1.65,-4) 36(1.65,-4) 37(-1.65,-5) 38(1.65,-5) 39(-1.65,-6) 40(1.65,-6) 41(-1.65,-7) 42(1.65,-7) 43(-1.65,-8) 44(1.65,-8) 45(-1.65,-9) 46(1.65,-9) 47(-1.65,-10) 48(1.65,-10) 49(-1.65,-11) 50(1.65,-11) 51(-1.65,-12) 52(1.65,-12) 53(-1.65,-13) 54(1.65,-13)
F.SilkS:
  lines w0.254: -2.59,13.56 -1.26,13.56 -1.26,13.61 1.26,13.61 1.26,13.56 ; -1.26,-13.56 -1.26,-13.61 1.26,-13.61 1.26,-13.56
Top Assembly:
  drawing of 167 lines, arcs and shapes, not listed
  text "'.Designator'" at 0.84,-4.047 h1
Top Courtyard:
  lines w0.254: -3.65,-14 3.65,-14 3.65,14 -3.65,14 -3.65,-14
Top Designator:
  text ".Designator" at -7.618,-0.508 h1.52

## PinHeader_2x28_P1.00mm_Horizontal [mm]
pads (56):
  rect 0.85x0.85 hole 0.5: 1(0,0)
  round 0.85 hole 0.5: 2(1,0) 3(0,-1) 4(1,-1) 5(0,-2) 6(1,-2) 7(0,-3) 8(1,-3) 9(0,-4) 10(1,-4) 11(0,-5) 12(1,-5) 13(0,-6) 14(1,-6) 15(0,-7) 16(1,-7) 17(0,-8) 18(1,-8) 19(0,-9) 20(1,-9) 21(0,-10) 22(1,-10) 23(0,-11) 24(1,-11) 25(0,-12) 26(1,-12) 27(0,-13) 28(1,-13) 29(0,-14) 30(1,-14) 31(0,-15) 32(1,-15) 33(0,-16) 34(1,-16) 35(0,-17) 36(1,-17) 37(0,-18) 38(1,-18) 39(0,-19) 40(1,-19) 41(0,-20) 42(1,-20) 43(0,-21) 44(1,-21) 45(0,-22) 46(1,-22) 47(0,-23) 48(1,-23) 49(0,-24) 50(1,-24) 51(0,-25) 52(1,-25) 53(0,-26) 54(1,-26) 55(0,-27) 56(1,-27)
F.SilkS:
  drawing of 174 lines, arcs and shapes, not listed
Top Assembly:
  drawing of 173 lines, arcs and shapes, not listed
  text "'.Designator'" at 3.105,-16.414 h0.72
Top Courtyard:
  lines w0.254: -1,-28 5.6,-28 5.6,1 -1,1 -1,-28
Top Designator:
  text ".Designator" at -5.318,-14.008 h1.52